# EAGLE library part VIPER25HD (library GEN_WIP_MASTERLIB)
Converter Offline Flyback Topology 225kHz 16-SO
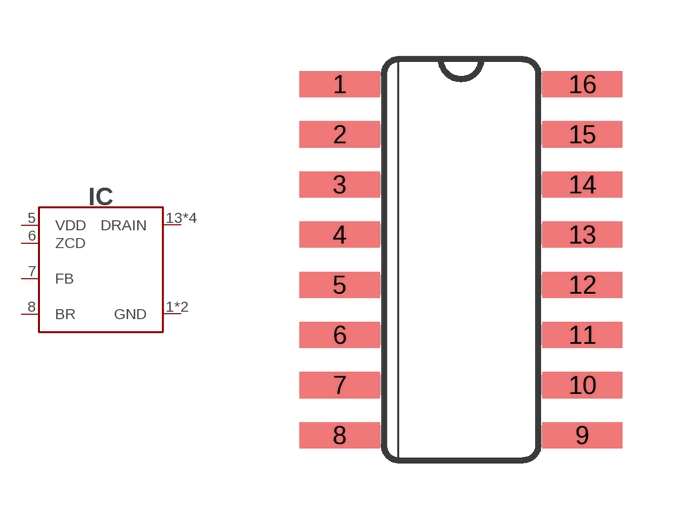
[diagram p3: symbol with the pads of SO16; footprint SO16]

Designator prefix IC

## VIPER25HD (DIGIKEY#: VIPER25HD-ND; MANF: STMicroelectronics; MANF#: VIPER25HD)  [SO16]
1  GND
2  GND
5  VDD
6  ZCD
7  FB
8  BR
13  DRAIN
14  DRAIN
15  DRAIN
16  DRAIN

## Footprint SO16 (pad centres in mm)
Small Outline package 150 mil
smd 2.032 x 0.66: 1 -3.073,4.445; 2 -3.073,3.175; 3 -3.073,1.905; 4 -3.073,0.635; 5 -3.073,-0.635; 6 -3.073,-1.905; 7 -3.073,-3.175; 8 -3.073,-4.445; 9 3.073,-4.445; 10 3.073,-3.175; 11 3.073,-1.905; 12 3.073,-0.635; 13 3.073,0.635; 14 3.073,1.905; 15 3.073,3.175; 16 3.073,4.445